# Altium schematic symbol library SYM-IC.SchLib: 136 symbols (part 1 of 7)
Pins are listed as number, name and electrical type; pins without a type are passive.

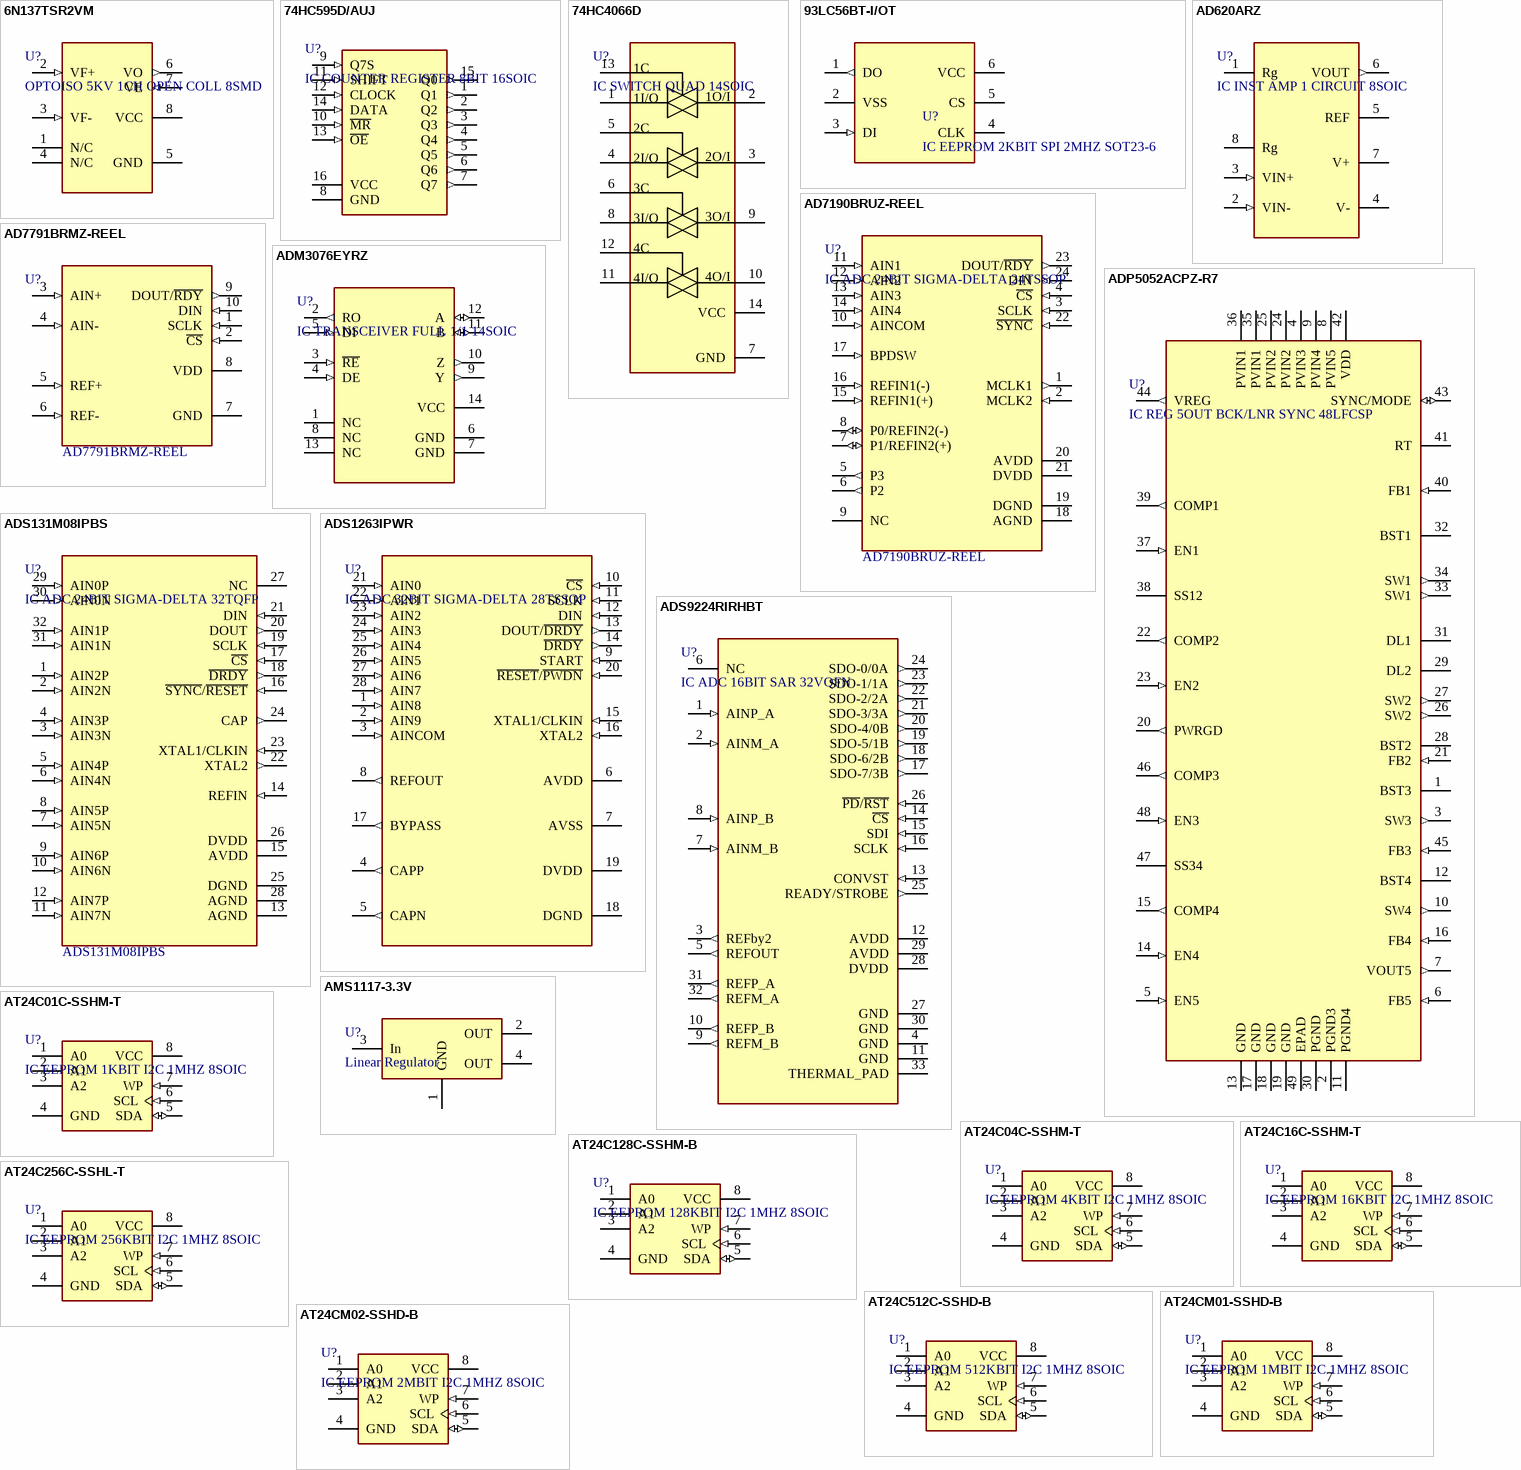
[diagram p0: symbols 6N137TSR2VM to AT24CM02-SSHD-B]

## 6N137TSR2VM
designator U?, comment OPTOISO 5KV 1CH OPEN COLL 8SMD
Optocoupler Logic-Out Open Collector DC-IN 1-CH 8-Pin MDIP SMD T/R; Manufacturer: ON Semiconductor / Fairchild; Manufacturer Part Number: 6N137TSR2VM; Number of Channels: 1; Output Current per Channel: 50mA; Data Rate: 10Mbps; Propagation Delay: 75ns; Direction: Unidirectional; Forward Voltage: 1.45V; Max Power Dissipation: 100mW; Supplier 1: Digi-Key; RoHS: Yes; Category: Optocouplers; Stock 1: 53; Pricing 1: 1=2/35000, 10=1/56600, 100=1/20550 (USD); Mount: Surface Mount; Case/Package: SMD/SMT; Number of Pins: 8; Contact Plating: Tin,Matte; Weight: 0.819g; Min Operating Temperature: -40°C; Max Operating Temperature: 100°C; Packaging: Tape and Reel; Turn-On Delay Time: 75ns; Lead Free: Lead Free; RoHS Compliant: Yes; ComponentLink1URL: http://www.mouser.com/ds/2/149/6N137M-371292.pdf?src-supplier=Mouser; ComponentLink1Description: http://www.mouser.com/ds/2/149/6N137M-371292.pdf?src-supplier=Mouser; ComponentLink2URL: https://www.fairchildsemi.com/datasheets/6N/6N137M.pdf?src-supplier=Avnet; ComponentLink2Description: https://www.fairchildsemi.com/datasheets/6N/6N137M.pdf?src-supplier=Avnet; Supplier Part Number 1: 6N137TSR2VMCT-ND
footprint SOP254P1030X508-8N (SOP, 8-Leads, Body 9/66x6/61mm, Pitch 2/54mm, IPC Medium Density)
pins: 1 N/C, 2 VF+ (in), 3 VF- (in), 4 N/C, 5 GND (power), 6 VO (out), 7 VE (in), 8 VCC (power)

## 74HC595D/AUJ
designator U?, comment IC COUNTER REGISTER 8BIT 16SOIC
IC Counter Register 8 Bit 16SOIC; Manufacturer: NXP Semiconductors; Manufacturer Part Number: 74HC595D/AUJ; Propagation Delay: 52ns; Max Supply Voltage: 6V; Min Supply Voltage: 2V; Number of Elements: 1; Number of Circuits: 8; Logic Function: Shift Register; Operating Supply Voltage: 5V; Supplier 1: Digi-Key; RoHS: Yes; Category: Shift Registers; Mount: Surface Mount; Case/Package: SO; Number of Pins: 16; Min Operating Temperature: -40°C; Max Operating Temperature: 125°C; Packaging: Tape and Reel; Package Quantity: 2500; Number of Input Lines: 1; Number of Output Lines: 8; Number of Bits per Element: 8; ComponentLink1URL: https://datasheet.ciiva.com/18575/74hc-hct595-18575039.pdf?src-supplier=Digi-Key; ComponentLink1Description: https://datasheet.ciiva.com/18575/74hc-hct595-18575039.pdf?src-supplier=Digi-Key; Supplier Part Number 1: 74HC595D/AUJ-ND
footprint SOIC127P600X175-16N (SOIC, 16-Leads, Body 9/90x3/90mm, Pitch 1/27mm, IPC Medium Density)
pins: 1 Q1 (out), 2 Q2 (out), 3 Q3 (out), 4 Q4 (out), 5 Q5 (out), 6 Q6 (out), 7 Q7 (out), 8 GND (power), 9 Q7S (in), 10 ~{MR} (in), 11 SHIFT (in), 12 CLOCK (in), 13 ~{OE} (in), 14 DATA (in), 15 Q0 (out), 16 VCC (power)

## 74HC4066D
designator U?, comment IC SWITCH QUAD 14SOIC
Analog Switch Quad SPST 14-Pin SOIC Emboss T/R; Manufacturer: Toshiba; Manufacturer Part Number: 74HC4066D; Supplier 1: Digi-Key; RoHS: Yes; Category: Interface ICs; Pricing 1: 2500=0/10494 (USD); RoHS Compliant: Yes; Supplier Part Number 1: 74HC4066DTS-ND
footprint SOIC127P600X175-14N (SOIC, 14-Leads, Body 8/65x3/90mm, Pitch 1/27mm, IPC Medium Density)
pins: 1, 2, 3, 4, 5, 6, 7 GND (power), 8, 9, 10, 11, 12, 13, 14 VCC (power)
text: 1C; 1I/O; 1O/I; 2C; 2I/O; 2O/I; 3C; 3I/O; 3O/I; 4C; 4I/O; 4O/I

## 93LC56BT-I/OT
designator U?, comment IC EEPROM 2KBIT SPI 2MHZ SOT23-6
EEPROM Memory IC 2Kb (128 x 16) SPI 2 MHz SOT-23-6; Supplier 1: Digi-Key; Supplier Part Number 1: 93LC56BT-I/OTCT-ND
footprint SOT95P270X145-6N (SOT23, 6-Leads, Body 2/90x2/70mm, Pitch 0/95mm, IPC Medium Density)
pins: 1 DO (out), 2 VSS (power), 3 DI (in), 4 CLK (power), 5 CS (power), 6 VCC (power)

## AD620ARZ
designator U?, comment IC INST AMP 1 CIRCUIT 8SOIC
Instrument Amplifier, 1, 50 V, 1.2 V/ s, 120 kHz, 2.3V to 18V, SOIC RoHS Compliant: Yes; Manufacturer: Analog Devices; Manufacturer Part Number: AD620ARZ; Bandwidth: 800kHz; Slew Rate: 1.2V/µs; Nominal Supply Current: 900uA; Common Mode Rejection Ratio: 93dB; Number of Channels: 1; Min Supply Voltage: 4.6V; -3db Bandwidth: 1MHz; Max Power Dissipation: 650mW; Input Bias Current: 500pA; Input Offset Voltage (Vos): 30mV; Operating Supply Current: 1.3mA; Output Current per Channel: 18mA; Power Supply Rejection Ratio (PSRR): 140dB; Gain Bandwidth Product: 120kHz; Settling Time: 15us; Dual Supply Voltage: 15V; Input Resistance: 10GR; Supplier 1: Digi-Key; RoHS: Yes; Category: Amplifiers - Op Amps, Buffer, Instrumentation; Pricing 1: 1=11/13000, 10=10/22900, 25=9/80480, 100=8/63900, 250=8/25000 (USD); Mount: Surface Mount; Case/Package: SOIC; Number of Pins: 8; Contact Plating: Tin,Matte; Min Operating Temperature: -55°C; Max Operating Temperature: 125°C; Operating Supply Voltage: 18V; Packaging: Rail/Tube; Package Quantity: 98; Min Dual Supply Voltage: 2.3V; Max Dual Supply Voltage: 18V; Number of Circuits: 1; Number of Amplifiers: 1; Number of Elements: 1; Power Dissipation: 650mW; Max Supply Current: 1.3mA; Series: -; Supply Current: 900uA; Length: 5mm; Width: 4mm; Height: 1.5mm; Radiation Hardening: No; REACH SVHC: No SVHC; Lead Free: Contains Lead; RoHS Compliant: Yes; ComponentLink1URL: https://datasheet.ciiva.com/15128/getdatasheetpartid-127380-15128291.pdf?src-supplier=Verical; ComponentLink1Description: https://datasheet.ciiva.com/15128/getdatasheetpartid-127380-15128291.pdf?src-supplier=Verical; ComponentLink2URL: https://datasheet.ciiva.com/1486/1789891-1486435.pdf?src-supplier=Element14; ComponentLink2Description: https://datasheet.ciiva.com/1486/1789891-1486435.pdf?src-supplier=Element14; ComponentLink3URL: https://datasheet.ciiva.com/1134/1789891-1134211.pdf?src-supplier=Element14; ComponentLink3Description: https://datasheet.ciiva.com/1134/1789891-1134211.pdf?src-supplier=Element14; ComponentLink4URL: https://datasheet.ciiva.com/2975/ad620-2975598.pdf?src-supplier=Avnet; ComponentLink4Description: https://datasheet.ciiva.com/2975/ad620-2975598.pdf?src-supplier=Avnet; ComponentLink5URL: https://datasheet.ciiva.com/1795/ad620-1795158.pdf?src-supplier=Digi-Key; ComponentLink5Description: https://datasheet.ciiva.com/1795/ad620-1795158.pdf?src-supplier=Digi-Key; ComponentLink6URL: https://datasheet.ciiva.com/48709/001248701-da-01-en-ic-amp-inst-lp-ln-18-ad620arz-soic-8-adi-48709621.pdf?src-supplier=Conrad; ComponentLink6Description: https://datasheet.ciiva.com/48709/001248701-da-01-en-ic-amp-inst-lp-ln-18-ad620arz-soic-8-adi-48709621.pdf?src-supplier=Conrad; Supplier Part Number 1: 505-AD620ARZ-ND
footprint SOIC127P600X175-8N (SOIC, 8-Leads, Body 4/89x3/90mm, Pitch 1/27mm, IPC Medium Density)
pins: 1 Rg, 2 VIN- (in), 3 VIN+ (in), 4 V- (power), 5 REF (power), 6 VOUT (out), 7 V+ (power), 8 Rg

## AD7190BRUZ-REEL
designator U?, comment IC ADC 24BIT SIGMA-DELTA 24TSSOP  Manufacturer Part Number: AD7190BRUZ-REEL
24BIT SPI/DSP; Manufacturer: Analog Devices; Operating Supply Voltage: 5V; Min Supply Voltage: 4.75V; Max Supply Voltage: 5.25V; Max Power Dissipation: 36.8mW; Number of Channels: 4; Interface: SPI; Number of Bits: 24; Sampling Rate: 4.8KS/s; Number of Converters: 1; Resolution: 24b; Polarity: Bipolar; Supply Type: Analog,Digital; Min Input Voltage: 1V; Supplier 1: Digi-Key; RoHS: Yes; Category: Analog to Digital Converters (ADCs); Stock 1: 13; Pricing 1: 1=17/96000, 10=16/51000, 25=15/82520, 100=13/94330, 250=13/25900, 500=12/40360 (USD); Case/Package: TSSOP; Number of Pins: 24; Contact Plating: Tin,Matte; Min Operating Temperature: -40°C; Max Operating Temperature: 105°C; Package Quantity: 1; Packaging: Tape and Reel; Number of A/D Converters: 1; Number of Elements: 1; Power Dissipation: 36.8mW; Max Input Voltage: 5V; Series: -; Lead Free: Contains Lead; RoHS Compliant: Yes; ComponentLink1URL: https://datasheet.ciiva.com/4031/43006881s8262506n2771-4031485.pdf?src-supplier=Arrow+Electronics; ComponentLink1Description: https://datasheet.ciiva.com/4031/43006881s8262506n2771-4031485.pdf?src-supplier=Arrow+Electronics; ComponentLink2URL: https://datasheet.ciiva.com/3039/ad7190-3039870.pdf?src-supplier=Avnet; ComponentLink2Description: https://datasheet.ciiva.com/3039/ad7190-3039870.pdf?src-supplier=Avnet; ComponentLink3URL: https://datasheet.ciiva.com/1285/ad7190-1285446.pdf?src-supplier=Digi-Key; ComponentLink3Description: https://datasheet.ciiva.com/1285/ad7190-1285446.pdf?src-supplier=Digi-Key; ComponentLink4URL: https://datasheet.ciiva.com/14919/ad7190-14919642.pdf?src-supplier=Digi-Key; ComponentLink4Description: https://datasheet.ciiva.com/14919/ad7190-14919642.pdf?src-supplier=Digi-Key; ComponentLink5URL: https://datasheet.ciiva.com/14919/ad7190-14919643.pdf?src-supplier=Digi-Key; ComponentLink5Description: https://datasheet.ciiva.com/14919/ad7190-14919643.pdf?src-supplier=Digi-Key; ComponentLink6URL: https://datasheet.ciiva.com/14919/ad7190-14919641.pdf?src-supplier=Digi-Key; ComponentLink6Description: https://datasheet.ciiva.com/14919/ad7190-14919641.pdf?src-supplier=Digi-Key; Supplier Part Number 1: 505-AD7190BRUZ-REELCT-ND
footprint TSOP65P640X120-24N (TSOP, 24-Leads, Body 7/80x4/40mm, Pitch 0/65mm, IPC Medium Density)
pins: 1 MCLK1 (out), 2 MCLK2 (in), 3 SCLK (in), 4 ~{CS} (in), 5 P3 (out), 6 P2 (out), 7 P1/REFIN2(+) (io), 8 P0/REFIN2(-) (io), 9 NC, 10 AINCOM (in), 11 AIN1 (in), 12 AIN2 (in), 13 AIN3 (in), 14 AIN4 (in), 15 REFIN1(+) (in), 16 REFIN1(-) (in), 17 BPDSW (in), 18 AGND (power), 19 DGND (power), 20 AVDD (power), 21 DVDD (power), 22 ~{SYNC} (in), 23 DOUT/~{RDY} (out), 24 DIN (in)

## AD7791BRMZ-REEL
designator U?, comment Manufacturer Part Number: AD7791BRMZ-REEL  (hidden comment: IC ADC 24BIT SIGMA-DELTA 10MSOP)
24 Bit Analog to Digital Converter 1 Input 1 Sigma-Delta 10-MSOP; Manufacturer: Analog Devices; Max Supply Voltage: 5.25V; Min Supply Voltage: 2.5V; Max Power Dissipation: 61mW; Number of Channels: 1; Interface: SPI; Number of Bits: 24; Sampling Rate: 120S/s; Resolution: 24b; Polarity: Bipolar; Power Dissipation: 225uW; Supply Type: Analog,Digital; Min Input Voltage: 100mV; Input Type: DIFFERENTIAL; Supplier 1: Digi-Key; RoHS: Yes; Category: Analog to Digital Converters (ADCs); Stock 1: 43; Pricing 1: 1=11/78000, 10=10/82200, 25=10/37360, 100=9/14010, 250=8/69148, 500=8/13072, 1000=7/93500 (USD); Case/Package: MSOP; Number of Pins: 10; Min Operating Temperature: -40°C; Max Operating Temperature: 105°C; Package Quantity: 1; Packaging: Tape and Reel; Number of Converters: 1; Number of Inputs: 1; Number of A/D Converters: 1; Number of Elements: 1; Number of Analog Inputs: 1; Max Input Voltage: 5.25V; Series: -; Lead Free: Contains Lead; RoHS Compliant: Yes; ComponentLink1URL: https://datasheet.ciiva.com/16322/ad7791-279009-16322392.pdf?src-supplier=Mouser; ComponentLink1Description: https://datasheet.ciiva.com/16322/ad7791-279009-16322392.pdf?src-supplier=Mouser; ComponentLink2URL: https://datasheet.ciiva.com/8196/ad7791-8196254.pdf?src-supplier=Avnet; ComponentLink2Description: https://datasheet.ciiva.com/8196/ad7791-8196254.pdf?src-supplier=Avnet; ComponentLink3URL: https://datasheet.ciiva.com/6659/ad7791-6659422.pdf?src-supplier=Digi-Key; ComponentLink3Description: https://datasheet.ciiva.com/6659/ad7791-6659422.pdf?src-supplier=Digi-Key; ComponentLink4URL: https://datasheet.ciiva.com/6659/ad7791-6659423.pdf?src-supplier=Digi-Key; ComponentLink4Description: https://datasheet.ciiva.com/6659/ad7791-6659423.pdf?src-supplier=Digi-Key; ComponentLink5URL: https://datasheet.ciiva.com/6659/ad7791-6659421.pdf?src-supplier=Digi-Key; ComponentLink5Description: https://datasheet.ciiva.com/6659/ad7791-6659421.pdf?src-supplier=Digi-Key; Supplier Part Number 1: 505-AD7791BRMZ-REELCT-ND
footprint TSSOP50P490X110-10N (TSSOP, 10-Leads, Body 3/00x3/00mm, Pitch 0/50mm, IPC Medium Density)
pins: 1 SCLK (in), 2 ~{CS} (in), 3 AIN+ (in), 4 AIN- (in), 5 REF+ (in), 6 REF- (in), 7 GND (power), 8 VDD (power), 9 DOUT/~{RDY} (out), 10 DIN (in)

## ADM3076EYRZ
designator U?, comment IC TRANSCEIVER FULL 1/1 14SOIC
Single Transmitter/Receiver RS-422/RS-485 14-Pin SOIC N Tube; Manufacturer: Analog Devices; Manufacturer Part Number: ADM3076EYRZ; Nominal Supply Current: 1.5mA; Data Rate: 16Mbps; Operating Supply Voltage: 3.3V; Number of Receivers: 1; Min Supply Voltage: 3V; Max Supply Voltage: 3.6V; Logic Function: Transceiver,Receiver; Interface: RS-422,RS-485; Simplex/Duplex: Full Duplex; Receiver Hysteresis: 100mV; ESD Protection: Yes; Output Type: 3-STATE; Supplier 1: Digi-Key; RoHS: Yes; Category: RS-232 / RS-422 / RS-485 Interface ICs; Stock 1: 141; Pricing 1: 1=5/87000, 10=5/27300, 25=4/98480, 100=4/32000, 250=4/09848, 500=3/67756, 1000=3/13500 (USD); Mount: Surface Mount; Case/Package: SOIC; Number of Pins: 14; Weight: 0.011923oz; Contact Plating: Tin,Matte; Min Operating Temperature: -40°C; Max Operating Temperature: 125°C; Packaging: Rail/Tube; Package Quantity: 56; Number of Transmitters: 1; Number of Drivers: 1; Operating Supply Current: 1.5mA; Number of Transceivers: 1; Max Supply Current: 1.5mA; Series: -; Supply Current: 1.5mA; Length: 8.75mm; Width: 4mm; Height: 1.5mm; REACH SVHC: No SVHC; Lead Free: Contains Lead; RoHS Compliant: Yes; ComponentLink1URL: https://datasheet.ciiva.com/15373/adm3070e-3071e-3072e-3073e-3074e-3075e-3076e-3077e-243206-15373377.pdf?src-supplier=Mouser; ComponentLink1Description: https://datasheet.ciiva.com/15373/adm3070e-3071e-3072e-3073e-3074e-3075e-3076e-3077e-243206-15373377.pdf?src-supplier=Mouser; ComponentLink2URL: https://datasheet.ciiva.com/3028/adm3070e-3071e-3072e-3073e-3074e-3075e-3076e-3077e-3078e-3028961.pdf?src-supplier=Avnet; ComponentLink2Description: https://datasheet.ciiva.com/3028/adm3070e-3071e-3072e-3073e-3074e-3075e-3076e-3077e-3078e-3028961.pdf?src-supplier=Avnet; ComponentLink3URL: https://datasheet.ciiva.com/1768/adm3070e-3071e-3072e-3073e-3074e-3075e-3076e-3077e-3078e-1768598.pdf?src-supplier=Digi-Key; ComponentLink3Description: https://datasheet.ciiva.com/1768/adm3070e-3071e-3072e-3073e-3074e-3075e-3076e-3077e-3078e-1768598.pdf?src-supplier=Digi-Key; Supplier Part Number 1: ADM3076EYRZ-ND
footprint SOIC127P600X175-14N (SOIC, 14-Leads, Body 8/65x3/90mm, Pitch 1/27mm, IPC Medium Density)
pins: 1 NC, 2 RO (out), 3 ~{RE} (in), 4 DE (in), 5 DI (in), 6 GND (power), 7 GND (power), 8 NC, 9 Y (out), 10 Z (out), 11 B (io), 12 A (io), 13 NC, 14 VCC (power)

## ADP5052ACPZ-R7
designator U?, comment IC REG 5OUT BCK/LNR SYNC 48LFCSP
Buck Regulator with LDO 4.5V to 15V 48-Pin LFCSP EP T/R; Manufacturer: Analog Devices; Manufacturer Part Number: ADP5052ACPZ-R7; Nominal Supply Current: 4.8mA; Output Voltage: 3.305V; Output Current: 200mA; Max Output Current: 4kA; Number of Outputs: 5; Max Duty Cycle: 50%; Switching Frequency: 740kHz; Voltage - Output 1: 1.6V; Voltage - Output 2: 5V; Voltage - Output 3: 1.8V; Current - Output 3: 1.2A; Max Output Voltage: 13.5V; Min Output Voltage: 800mV; Output Type: Fixed,Adjustable; Supplier 1: Digi-Key; RoHS: Yes; Category: Voltage Regulators - Switching; Pricing 1: 1=10/87000, 10=9/82200, 25=9/36560, 100=8/13210, 250=7/76664 (USD); Mount: Surface Mount; Case/Package: LFCSP EP; Number of Pins: 48; Contact Plating: Tin,Matte; Min Operating Temperature: -40°C; Max Operating Temperature: 125°C; Package Quantity: 750; Packaging: Tape and Reel; Operating Supply Voltage: 15V; Min Input Voltage: 4.5V; Max Input Voltage: 15V; Series: ADP5052; Supply Current: 4.8mA; Length: 7mm; Width: 7.1mm; Height: 0.73mm; REACH SVHC: No SVHC; Lead Free: Contains Lead; RoHS Compliant: Yes; ComponentLink1URL: https://datasheet.ciiva.com/24009/adp5052-254022-24009200.pdf?src-supplier=Mouser; ComponentLink1Description: https://datasheet.ciiva.com/24009/adp5052-254022-24009200.pdf?src-supplier=Mouser; ComponentLink2URL: https://datasheet.ciiva.com/30477/0900766b8122e86d-30477651.pdf?src-supplier=RSComponents; ComponentLink2Description: https://datasheet.ciiva.com/30477/0900766b8122e86d-30477651.pdf?src-supplier=RSComponents; ComponentLink3URL: https://datasheet.ciiva.com/18550/adp5052-18550491.pdf?src-supplier=Digi-Key; ComponentLink3Description: https://datasheet.ciiva.com/18550/adp5052-18550491.pdf?src-supplier=Digi-Key; ComponentLink4URL: https://datasheet.ciiva.com/29892/adp5052-29892875.pdf?src-supplier=Avnet; ComponentLink4Description: https://datasheet.ciiva.com/29892/adp5052-29892875.pdf?src-supplier=Avnet; ComponentLink5URL: https://datasheet.ciiva.com/18550/adp5052-18550492.pdf?src-supplier=Digi-Key; ComponentLink5Description: https://datasheet.ciiva.com/18550/adp5052-18550492.pdf?src-supplier=Digi-Key; ComponentLink6URL: https://datasheet.ciiva.com/18550/adp5052-18550493.pdf?src-supplier=Digi-Key; ComponentLink6Description: https://datasheet.ciiva.com/18550/adp5052-18550493.pdf?src-supplier=Digi-Key; ComponentLink7URL: https://datasheet.ciiva.com/48694/001251707-da-01-en-ic-reg-5out-adp5052acpz-r7-lfcsp-48-adi-48694988.pdf?src-supplier=Conrad; ComponentLink7Description: https://datasheet.ciiva.com/48694/001251707-da-01-en-ic-reg-5out-adp5052acpz-r7-lfcsp-48-adi-48694988.pdf?src-supplier=Conrad; Supplier Part Number 1: 505-ADP5052ACPZ-R7CT-ND
footprint QFN50P700X700X80_HS-49N (QFN, 48-Leads, Body 7/00x7/00mm, Pitch 0/50mm, Thermal Pad 5/60x5/60mm, IPC Medium Density)
pins: 1 BST3, 2 PGND3 (power), 3 SW3 (out), 4 PVIN3 (power), 5 EN5 (in), 6 FB5 (in), 7 VOUT5 (out), 8 PVIN5 (power), 9 PVIN4 (power), 10 SW4 (out), 11 PGND4 (power), 12 BST4, 13 GND (power), 14 EN4 (in), 15 COMP4 (out), 16 FB4 (in), 17 GND (power), 18 GND (power), 19 GND (power), 20 PWRGD (out), 21 FB2 (in), 22 COMP2 (out), 23 EN2 (in), 24 PVIN2 (power), 25 PVIN2 (power), 26 SW2 (out), 27 SW2 (out), 28 BST2, 29 DL2, 30 PGND (power), 31 DL1, 32 BST1, 33 SW1 (out), 34 SW1 (out), 35 PVIN1 (power), 36 PVIN1 (power), 37 EN1 (in), 38 SS12, 39 COMP1 (out), 40 FB1 (in), 41 RT, 42 VDD (power), 43 SYNC/MODE (io), 44 VREG (out), 45 FB3 (in), 46 COMP3 (out), 47 SS34, 48 EN3 (in), 49 EPAD

## ADS131M08IPBS
designator U?, comment IC ADC 24BIT SIGMA-DELTA 32TQFP  Manufacturer Part Number: ADS131M08IPBS
24-bit, 32-kSPS, 8-channel, simultaneous-sampling, delta-sigma ADC 32-TQFP -40 to 125; Manufacturer: Texas Instruments; Supplier 1: Digi-Key; RoHS: Yes; Category: Analog to Digital Converters (ADCs); Stock 1: 1130; Pricing 1: 1=10/61000, 10=9/58500, 25=9/13960, 80=7/93588, 250=7/57920, 500=6/91046, 1000=6/72960 (USD); Supplier Part Number 1: 296-ADS131M08IPBS-ND
footprint TSQFP50P700X700X105-32N (TSQFP, 32-Leads, Body 5/00x5/00mm, Pitch 0/50mm, IPC Medium Density)
pins: 1 AIN2P (in), 2 AIN2N (in), 3 AIN3N (in), 4 AIN3P (in), 5 AIN4P (in), 6 AIN4N (in), 7 AIN5N (in), 8 AIN5P (in), 9 AIN6P (in), 10 AIN6N (in), 11 AIN7N (in), 12 AIN7P (in), 13 AGND (power), 14 REFIN (in), 15 AVDD (power), 16 ~{SYNC}/~{RESET} (in), 17 ~{CS} (in), 18 ~{DRDY} (out), 19 SCLK (in), 20 DOUT (out), 21 DIN (in), 22 XTAL2 (out), 23 XTAL1/CLKIN (in), 24 CAP (out), 25 DGND (power), 26 DVDD (power), 27 NC, 28 AGND (power), 29 AIN0P (in), 30 AIN0N (in), 31 AIN1N (in), 32 AIN1P (in)

## ADS1263IPWR
designator U?, comment IC ADC 32BIT SIGMA-DELTA 28TSSOP
10-Channel Single ADC Delta-Sigma 38ksps 32-bit Serial 28-Pin TSSOP T/R; Manufacturer: Texas Instruments; Manufacturer Part Number: ADS1263IPWR; Number of Bits: 32; Sampling Rate: 38000S/s; Interface: SPI; Number of A/D Converters: 1; Power Consumption: 27mW; Polarity: Bipolar,Unipolar; Max Dual Supply Voltage: 2.5V; Number of Analog Inputs: 10; Max Supply Voltage: 5.25V; Power Dissipation: 25mW; Operating Supply Voltage: 5V; Max Power Dissipation: 37mW; Supplier 1: Digi-Key; RoHS: Yes; Category: Analog to Digital Converters (ADCs); Mount: Surface Mount; Case/Package: TSSOP; Number of Pins: 28; Contact Plating: Gold; Min Operating Temperature: -40°C; Max Operating Temperature: 125°C; Packaging: Tape and Reel; Supply Type: Single; Number of Inputs: 10; Lead Free: Lead Free; RoHS Compliant: Yes; ComponentLink1URL: http://www.ti.com/lit/ds/symlink/ads1263.pdf?src-supplier=Digi-Key; ComponentLink1Description: http://www.ti.com/lit/ds/symlink/ads1263.pdf?src-supplier=Digi-Key; ComponentLink2URL: http://www.ti.com/lit/gpn/ads1263?src-supplier=Mouser; ComponentLink2Description: http://www.ti.com/lit/gpn/ads1263?src-supplier=Mouser; ComponentLink3URL: http://www.ti.com/general/docs/lit/getliterature.tsp?genericPartNumber=ADS1263&&fileType=pdf&src-supplier=Avnet; ComponentLink3Description: http://www.ti.com/general/docs/lit/getliterature.tsp?genericPartNumber=ADS1263&&fileType=pdf&src-supplier=Avnet; Supplier Part Number 1: 296-42485-1-ND
footprint TSOP65P640X120-28N (TSOP, 28-Leads, Body 9/70x4/40mm, Pitch 0/65mm, IPC Medium Density)
pins: 1 AIN8 (in), 2 AIN9 (in), 3 AINCOM (in), 4 CAPP (out), 5 CAPN (out), 6 AVDD (power), 7 AVSS (power), 8 REFOUT (out), 9 START (in), 10 ~{CS} (in), 11 SCLK (in), 12 DIN (in), 13 DOUT/~{DRDY} (out), 14 ~{DRDY} (out), 15 XTAL1/CLKIN (in), 16 XTAL2 (in), 17 BYPASS (out), 18 DGND (power), 19 DVDD (power), 20 ~{RESET}/~{PWDN} (in), 21 AIN0 (in), 22 AIN1 (in), 23 AIN2 (in), 24 AIN3 (in), 25 AIN4 (in), 26 AIN5 (in), 27 AIN6 (in), 28 AIN7 (in)

## ADS9224RIRHBT
designator U?, comment IC ADC 16BIT SAR 32VQFN
2-Channel Dual ADC SAR 3Msps 16-bit Serial 32-Pin VQFN EP T/R; Manufacturer: Texas Instruments; Manufacturer Part Number: ADS9224RIRHBT; Supplier 1: Digi-Key; RoHS: Yes; Category: Analog to Digital Converters (ADCs); Stock 1: 119; Pricing 1: 1=26/60000, 10=24/52800, 25=23/42600, 100=22/75000 (USD); Supplier Part Number 1: 296-ADS9224RIRHBTCT-ND
footprint QFN50P500X500X100_HS-33N (QFN, 32-Leads, Body 5/00x5/00mm, Pitch 0/50mm, Thermal Pad 3/45x3/45mm, IPC Medium Density)
pins: 1 AINP_A (in), 2 AINM_A (in), 3 REFby2 (out), 4 GND (power), 5 REFOUT (out), 6 NC, 7 AINM_B (in), 8 AINP_B (in), 9 REFM_B (out), 10 REFP_B (out), 11 GND (power), 12 AVDD (power), 13 CONVST (in), 14 ~{CS} (in), 15 SDI (in), 16 SCLK (in), 17 SDO-7/3B (out), 18 SDO-6/2B (out), 19 SDO-5/1B (out), 20 SDO-4/0B (out), 21 SDO-3/3A (out), 22 SDO-2/2A (out), 23 SDO-1/1A (out), 24 SDO-0/0A (out), 25 READY/STROBE (out), 26 ~{PD}/~{RST} (in), 27 GND (power), 28 DVDD (power), 29 AVDD (power), 30 GND (power), 31 REFP_A (out), 32 REFM_A (out), 33 THERMAL_PAD (power)

## AMS1117-3.3V
designator U?, comment Linear Regulator
footprint SOT230P700X180-4N (SOT223, 4-Leads, Body 6/50x7/00mm (avg), Pitch 2/30mm, IPC Medium Density)
pins: 1 GND, 2 OUT, 3 In, 4 OUT

## AT24C01C-SSHM-T
designator U?, comment IC EEPROM 1KBIT I2C 1MHZ 8SOIC
Serial EEPROM, 1K (128 X 8), 2-WIRE - 8 SOIC, Pb/halo Free, Nipdau, 1.7V; Manufacturer: Microchip; Manufacturer Part Number: AT24C01C-SSHM-T; Supplier 1: Digi-Key; RoHS: Yes; Category: EEPROM; Pricing 1: 1=0/22000, 100=0/21200 (USD); Supplier Part Number 1: AT24C01C-SSHM-TCT-ND
footprint SOIC127P600X175-8N (SOIC, 8-Leads, Body 4/89x3/90mm, Pitch 1/27mm, IPC Medium Density)
pins: 1 A0, 2 A1, 3 A2, 4 GND (power), 5 SDA (io), 6 SCL (in), 7 WP (in), 8 VCC (power)

## AT24C04C-SSHM-T
designator U?, comment IC EEPROM 4KBIT I2C 1MHZ 8SOIC
EEPROM Serial-2Wire 4K-bit 512 x 8 1.8V/2.5V/3.3V/5V Automotive 8-Pin SOIC N T/R; Manufacturer: Microchip; Manufacturer Part Number: AT24C04C-SSHM-T; Memory Type: Non-Volatile,EEPROM; Memory Size: 4Kb; Access Time: 550ns; Supplier 1: Digi-Key; RoHS: Yes; Category: EEPROM; Pricing 1: 1=0/28000 (USD); Mount: Surface Mount; Case/Package: SOIC; Number of Pins: 8; Min Operating Temperature: -40°C; Max Operating Temperature: 85°C; Packaging: Tape and Reel; Frequency: 1MHz; RoHS Compliant: Yes; ComponentLink1URL: http://www.farnell.com/datasheets/1726557.pdf?src-supplier=Farnell; ComponentLink1Description: http://www.farnell.com/datasheets/1726557.pdf?src-supplier=Farnell; ComponentLink2URL: http://www.farnell.com/datasheets/1726557.pdf?src-supplier=Newark; ComponentLink2Description: http://www.farnell.com/datasheets/1726557.pdf?src-supplier=Newark; ComponentLink3URL: http://www.farnell.com/datasheets/1726557.pdf?src-supplier=Element14; ComponentLink3Description: http://www.farnell.com/datasheets/1726557.pdf?src-supplier=Element14; ComponentLink4URL: http://www.microchip.com/mymicrochip/filehandler.aspx?ddocname=en590583&src-supplier=Digi-Key; ComponentLink4Description: http://www.microchip.com/mymicrochip/filehandler.aspx?ddocname=en590583&src-supplier=Digi-Key; Supplier Part Number 1: AT24C04C-SSHM-TCT-ND
footprint SOIC127P600X175-8N (SOIC, 8-Leads, Body 4/89x3/90mm, Pitch 1/27mm, IPC Medium Density)
pins: 1 A0, 2 A1, 3 A2, 4 GND (power), 5 SDA (io), 6 SCL (in), 7 WP (in), 8 VCC (power)

## AT24C16C-SSHM-T
designator U?, comment IC EEPROM 16KBIT I2C 1MHZ 8SOIC
IC EEPROM 16KBIT 1MHZ 8SOIC; Manufacturer: Microchip; Manufacturer Part Number: AT24C16C-SSHM-T; Memory Type: Non-Volatile,EEPROM; Memory Size: 16Kb; Access Time: 550ns; Supplier 1: Digi-Key; RoHS: Yes; Category: EEPROM; Pricing 1: 1=0/33000 (USD); Mount: Surface Mount; Case/Package: SOIC; Number of Pins: 8; Min Operating Temperature: -40°C; Max Operating Temperature: 85°C; Packaging: Tape and Reel; Frequency: 1MHz; RoHS Compliant: Yes; ComponentLink1URL: http://www.microchip.com/mymicrochip/filehandler.aspx?ddocname=en590089&src-supplier=Digi-Key; ComponentLink1Description: http://www.microchip.com/mymicrochip/filehandler.aspx?ddocname=en590089&src-supplier=Digi-Key; Supplier Part Number 1: AT24C16C-SSHM-TCT-ND
footprint SOIC127P600X175-8N (SOIC, 8-Leads, Body 4/89x3/90mm, Pitch 1/27mm, IPC Medium Density)
pins: 1 A0, 2 A1, 3 A2, 4 GND (power), 5 SDA (io), 6 SCL (in), 7 WP (in), 8 VCC (power)

## AT24C128C-SSHM-B
designator U?, comment IC EEPROM 128KBIT I2C 1MHZ 8SOIC
EEPROM Serial-2Wire 128K-bit 16K x 8 1.8V/2.5V/3.3V/5V Automotive 8-Pin SOIC N Tube; Manufacturer: Microchip; Manufacturer Part Number: AT24C128C-SSHM-B; Supplier 1: Digi-Key; RoHS: Yes; Category: EEPROM; Stock 1: 2737; Pricing 1: 1=0/54000, 25=0/53000, 100=0/52500 (USD); Supplier Part Number 1: AT24C128C-SSHM-B-ND
footprint SOIC127P600X175-8N (SOIC, 8-Leads, Body 4/89x3/90mm, Pitch 1/27mm, IPC Medium Density)
pins: 1 A0, 2 A1, 3 A2, 4 GND (power), 5 SDA (io), 6 SCL (in), 7 WP (in), 8 VCC (power)

## AT24C256C-SSHL-T
designator U?, comment IC EEPROM 256KBIT I2C 1MHZ 8SOIC
EEPROM Serial-2Wire 256K-bit 32K x 8 1.8V/2.5V/3.3V/5V Automotive 8-Pin SOIC N T/R; Manufacturer: Microchip / Atmel; Manufacturer Part Number: AT24C256C-SSHL-T; Access Time: 550ns; Memory Size: 256Kb; Min Supply Voltage: 1.7V; Max Supply Voltage: 5.5V; Interface: I2C,Serial,2-Wire; Nominal Supply Current: 3mA; Organization: 32KX8; Write Cycle Time-Max (tWC): 5ms; Write Protection: YES; Voltage: 5V; Supplier 1: Digi-Key; RoHS: Yes; Category: EEPROM; Mount: Surface Mount; Case/Package: SOIC; Number of Pins: 8; Contact Plating: Tin,Matte; Min Operating Temperature: -40°C; Max Operating Temperature: 85°C; Packaging: Tape and Reel; Frequency: 1MHz; Memory Type: EEPROM; Package Quantity: 1; Density: 256Kb; Max Frequency: 1MHz; Series: -; Access Time-Max: 550ns; Supply Voltage-Nom: 5.5V; Supply Current: 3mA; Radiation Hardening: No; RoHS Compliant: Yes; REACH SVHC: No SVHC; Lead Free: Lead Free; ComponentLink1URL: https://datasheet.ciiva.com/18618/doc8568-18618016.pdf?src-supplier=Digi-Key; ComponentLink1Description: https://datasheet.ciiva.com/18618/doc8568-18618016.pdf?src-supplier=Digi-Key; ComponentLink2URL: https://datasheet.ciiva.com/15123/getdatasheetpartid-329973-15123399.pdf?src-supplier=Verical; ComponentLink2Description: https://datasheet.ciiva.com/15123/getdatasheetpartid-329973-15123399.pdf?src-supplier=Verical; ComponentLink3URL: https://datasheet.ciiva.com/22729/1726561-22729497.pdf?src-supplier=Element14; ComponentLink3Description: https://datasheet.ciiva.com/22729/1726561-22729497.pdf?src-supplier=Element14; Supplier Part Number 1: AT24C256C-SSHL-TCT-ND
footprint SOIC127P600X175-8N (SOIC, 8-Leads, Body 4/89x3/90mm, Pitch 1/27mm, IPC Medium Density)
pins: 1 A0, 2 A1, 3 A2, 4 GND (power), 5 SDA (io), 6 SCL (in), 7 WP (in), 8 VCC (power)

## AT24C512C-SSHD-B
designator U?, comment IC EEPROM 512KBIT I2C 1MHZ 8SOIC
AT24C512C Series 512 Kb (64 K x 8) 2.5 V I2C-Compatible Serial EEPROM - SOIC-8; Manufacturer: Microchip / Atmel; Manufacturer Part Number: AT24C512C-SSHD-B; Access Time: 550ns; Memory Size: 512Kb; Min Supply Voltage: 2.5V; Max Supply Voltage: 5.5V; Number of Words: 65536; Nominal Supply Current: 3mA; Interface: I2C,Serial,2-Wire; Organization: 64KX8; Write Cycle Time-Max (tWC): 5ms; Write Protection: YES; Supplier 1: Digi-Key; RoHS: Yes; Category: EEPROM; Mount: Surface Mount; Case/Package: SOIC; Number of Pins: 8; Contact Plating: Gold; Min Operating Temperature: -40°C; Max Operating Temperature: 85°C; Packaging: Bulk; Frequency: 1MHz; Memory Type: EEPROM; Density: 512Kb; Package Quantity: 100; Max Frequency: 1MHz; Series: -; Access Time-Max: 550ns; Supply Voltage-Nom: 5.5V; Supply Current: 3mA; Length: 5.05mm; Width: 3.99mm; Height: 1.5mm; Radiation Hardening: No; RoHS Compliant: Yes; REACH SVHC: No SVHC; Lead Free: Lead Free; ComponentLink1URL: https://datasheet.ciiva.com/15123/getdatasheetpartid-320463-15123382.pdf?src-supplier=Verical; ComponentLink1Description: https://datasheet.ciiva.com/15123/getdatasheetpartid-320463-15123382.pdf?src-supplier=Verical; ComponentLink2URL: https://datasheet.ciiva.com/1910/at24c512c-1910446.pdf?src-supplier=Digi-Key; ComponentLink2Description: https://datasheet.ciiva.com/1910/at24c512c-1910446.pdf?src-supplier=Digi-Key; ComponentLink3URL: https://datasheet.ciiva.com/1509/1701693-1509890.pdf?src-supplier=Element14; ComponentLink3Description: https://datasheet.ciiva.com/1509/1701693-1509890.pdf?src-supplier=Element14; Supplier Part Number 1: AT24C512C-SSHD-B-ND
footprint SOIC127P600X175-8N (SOIC, 8-Leads, Body 4/89x3/90mm, Pitch 1/27mm, IPC Medium Density)
pins: 1 A0, 2 A1, 3 A2, 4 GND (power), 5 SDA (io), 6 SCL (in), 7 WP (in), 8 VCC (power)

## AT24CM01-SSHD-B
designator U?, comment IC EEPROM 1MBIT I2C 1MHZ 8SOIC
AT24CM01 Series 1M (128K x 8) 5.5 V Surface Mount SPI Serial EEPROM - SOIC-8; Manufacturer: Microchip; Manufacturer Part Number: AT24CM01-SSHD-B; Memory Type: Non-Volatile,EEPROM; Memory Size: 1Mb; Access Time: 550ns; Supplier 1: Digi-Key; RoHS: Yes; Category: EEPROM; Pricing 1: 1=1/78000, 25=1/77000 (USD); Mount: Surface Mount; Case/Package: SOIC; Min Operating Temperature: -40°C; Max Operating Temperature: 85°C; Packaging: Rail/Tube; Frequency: 1MHz; RoHS Compliant: Yes; ComponentLink1URL: http://www.farnell.com/datasheets/2720105.pdf?src-supplier=Farnell; ComponentLink1Description: http://www.farnell.com/datasheets/2720105.pdf?src-supplier=Farnell; ComponentLink2URL: http://www.farnell.com/datasheets/2720105.pdf?src-supplier=Element14; ComponentLink2Description: http://www.farnell.com/datasheets/2720105.pdf?src-supplier=Element14; ComponentLink3URL: http://www.farnell.com/datasheets/2720105.pdf?src-supplier=Newark; ComponentLink3Description: http://www.farnell.com/datasheets/2720105.pdf?src-supplier=Newark; ComponentLink4URL: http://www.microchip.com/mymicrochip/filehandler.aspx?ddocname=en589803&src-supplier=Digi-Key; ComponentLink4Description: http://www.microchip.com/mymicrochip/filehandler.aspx?ddocname=en589803&src-supplier=Digi-Key; Supplier Part Number 1: AT24CM01-SSHD-B-ND
footprint SOIC127P600X175-8N (SOIC, 8-Leads, Body 4/89x3/90mm, Pitch 1/27mm, IPC Medium Density)
pins: 1 A0, 2 A1, 3 A2, 4 GND (power), 5 SDA (io), 6 SCL (in), 7 WP (in), 8 VCC (power)

## AT24CM02-SSHD-B
designator U?, comment IC EEPROM 2MBIT I2C 1MHZ 8SOIC
AT24CM02: 2 Mb (256K x 8) 5.5 V I2C-Compatible (2-wire) Serial EEPROM-SOIC-8; Manufacturer: Microchip; Manufacturer Part Number: AT24CM02-SSHD-B; Memory Type: Non-Volatile,EEPROM; Access Time: 450ns; Memory Size: 2Mb; Supplier 1: Digi-Key; RoHS: Yes; Category: EEPROM; Pricing 1: 1=3/29000, 25=3/27000 (USD); Mount: Surface Mount; Case/Package: SOIC; Min Operating Temperature: -40°C; Max Operating Temperature: 85°C; Packaging: Rail/Tube; Frequency: 1MHz; RoHS Compliant: Yes; ComponentLink1URL: http://www.microchip.com/mymicrochip/filehandler.aspx?ddocname=en589710&src-supplier=Digi-Key; ComponentLink1Description: http://www.microchip.com/mymicrochip/filehandler.aspx?ddocname=en589710&src-supplier=Digi-Key; Supplier Part Number 1: AT24CM02-SSHD-B-ND
footprint SOIC127P600X175-8N (SOIC, 8-Leads, Body 4/89x3/90mm, Pitch 1/27mm, IPC Medium Density)
pins: 1 A0, 2 A1, 3 A2, 4 GND (power), 5 SDA (io), 6 SCL (in), 7 WP (in), 8 VCC (power)

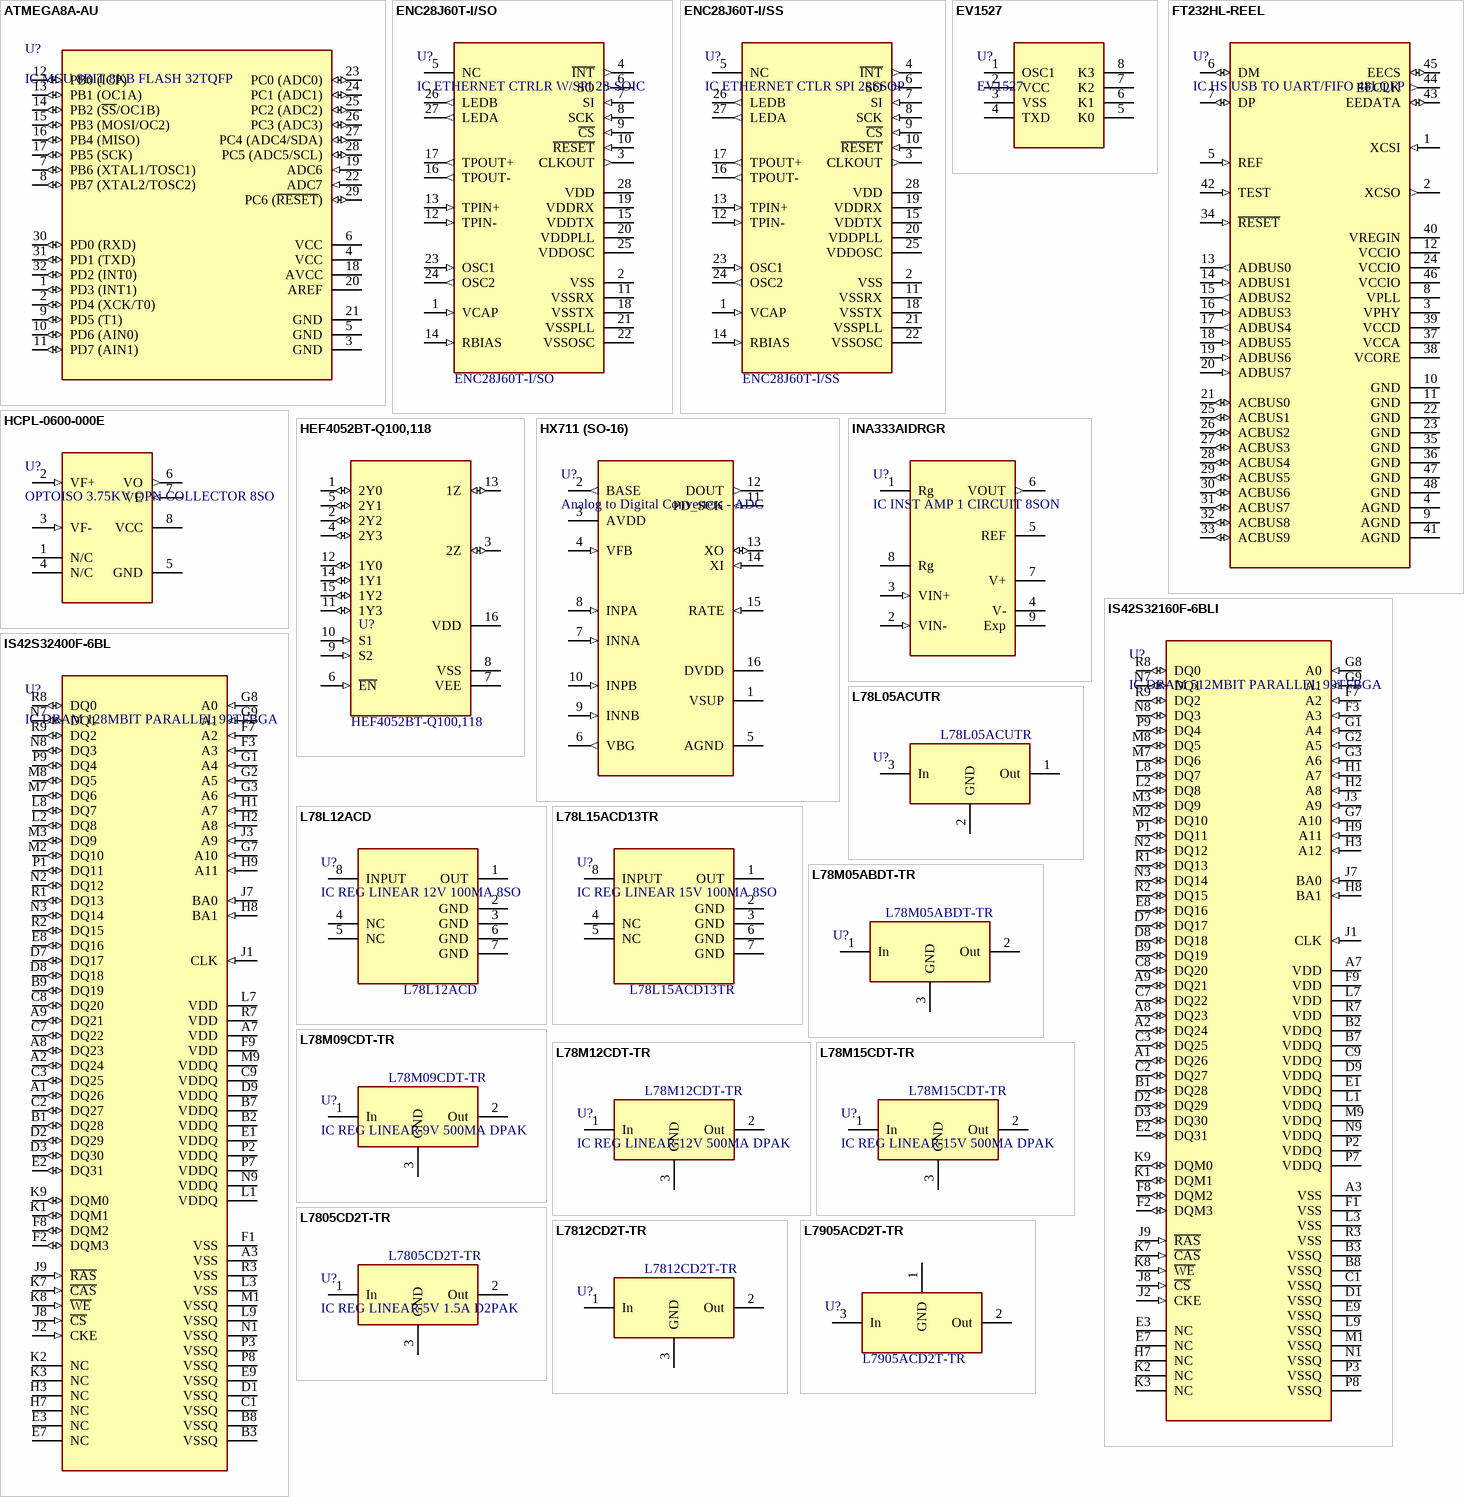
[diagram p1: symbols ATMEGA8A-AU to L7905ACD2T-TR]

## ATMEGA8A-AU
designator U?, comment IC MCU 8BIT 8KB FLASH 32TQFP
ATmega Series 8 KB Flash 1 KB SRAM 16 MHz 8-Bit Microcontroller - TQFP-32; Manufacturer: Microchip; Manufacturer Part Number: ATMEGA8A-AU; Peripherals: Brown-out Detect/Reset,POR,PWM,WDT; Interface: I2C,SPI,UART,USART; Frequency: 16MHz; Oscillator Type: Internal; Max Supply Voltage: 5.5V; Min Supply Voltage: 2.7V; Supplier 1: Digi-Key; RoHS: Yes; Category: Microcontrollers; Pricing 1: 1=2/47000, 25=2/26560, 100=2/05850 (USD); Case/Package: TQFP; Min Operating Temperature: -40°C; Max Operating Temperature: 85°C; Memory Type: FLASH; Memory Size: 8KB; ComponentLink1URL: http://www.farnell.com/datasheets/2048764.pdf?src-supplier=Farnell; ComponentLink1Description: http://www.farnell.com/datasheets/2048764.pdf?src-supplier=Farnell; ComponentLink2URL: http://www.microchip.com/mymicrochip/filehandler.aspx?ddocname=en590320&src-supplier=Digi-Key; ComponentLink2Description: http://www.microchip.com/mymicrochip/filehandler.aspx?ddocname=en590320&src-supplier=Digi-Key; Supplier Part Number 1: ATMEGA8A-AU-ND
footprint TQFP80P900X900X120-32N (TQFP, 32-Leads, Body 7/00x7/00mm, Pitch 0/80mm, IPC Medium Density)
pins: 1 PD3 (INT1) (io), 2 PD4 (XCK/T0) (io), 3 GND (power), 4 VCC (power), 5 GND (power), 6 VCC (power), 7 PB6 (XTAL1/TOSC1) (io), 8 PB7 (XTAL2/TOSC2) (io), 9 PD5 (T1) (io), 10 PD6 (AIN0) (io), 11 PD7 (AIN1) (io), 12 PB0 (ICP) (io), 13 PB1 (OC1A) (io), 14 PB2 (~{SS}/OC1B) (io), 15 PB3 (MOSI/OC2) (io), 16 PB4 (MISO) (io), 17 PB5 (SCK) (io), 18 AVCC (power), 19 ADC6 (in), 20 AREF, 21 GND (power), 22 ADC7 (in), 23 PC0 (ADC0) (io), 24 PC1 (ADC1) (io), 25 PC2 (ADC2) (io), 26 PC3 (ADC3) (io), 27 PC4 (ADC4/SDA) (io), 28 PC5 (ADC5/SCL) (io), 29 PC6 (~{RESET}) (io), 30 PD0 (RXD) (io), 31 PD1 (TXD) (io), 32 PD2 (INT0) (io)

## ENC28J60T-I/SO
designator U?, comment IC ETHERNET CTRLR W/SPI 28-SOIC  Manufacturer Part Number: ENC28J60T-I/SO
ENC28J60 Series 3.3 V Stand-Alone Ethernet Controller with SPI Interface-SOIC-28; Manufacturer: Microchip; Operating Supply Voltage: 3.3V; Min Supply Voltage: 3.1V; Max Supply Voltage: 3.6V; Data Rate: 10Mbps; Max Supply Current: 180mA; Supplier 1: Digi-Key; RoHS: Yes; Category: Ethernet Interface ICs; Mount: Surface Mount; Case/Package: SOIC W; Number of Pins: 28; Min Operating Temperature: -40°C; Max Operating Temperature: 85°C; Packaging: Tape and Reel; Package Quantity: 1600; Interface: SPI; Supply Voltage-Nom: 3.6V; Radiation Hardening: No; Lead Free: Lead Free; RoHS Compliant: Yes; ComponentLink1URL: https://datasheet.ciiva.com/1695/39662e-1695447.pdf?src-supplier=Digi-Key; ComponentLink1Description: https://datasheet.ciiva.com/1695/39662e-1695447.pdf?src-supplier=Digi-Key; Supplier Part Number 1: ENC28J60T-I/SOCT-ND
footprint SOIC127P1030X265-28N (SOIC, 28-Leads, Body 17/90x7/50mm, Pitch 1/27mm, IPC Medium Density)
pins: 1 VCAP (in), 2 VSS (power), 3 CLKOUT (out), 4 ~{INT} (out), 5 NC, 6 SO (out), 7 SI (in), 8 SCK (in), 9 ~{CS} (in), 10 ~{RESET} (in), 11 VSSRX (power), 12 TPIN- (in), 13 TPIN+ (in), 14 RBIAS (in), 15 VDDTX (power), 16 TPOUT- (out), 17 TPOUT+ (out), 18 VSSTX (power), 19 VDDRX (power), 20 VDDPLL (power), 21 VSSPLL (power), 22 VSSOSC (power), 23 OSC1 (in), 24 OSC2 (out), 25 VDDOSC (power), 26 LEDB (out), 27 LEDA (out), 28 VDD (power)

## ENC28J60T-I/SS
designator U?, comment IC ETHERNET CTLR SPI 28SSOP  Manufacturer Part Number: ENC28J60T-I/SS
ENC28J60 Series 3.3 V Stand-Alone Ethernet Controller with SPI Interface-SSOP-28; Manufacturer: Microchip; Data Rate: 10Mbps; Max Supply Voltage: 3.6V; Min Supply Voltage: 3.1V; Operating Supply Voltage: 3.3V; Number of Transceivers: 1; Max Supply Current: 12mA; Supplier 1: Digi-Key; RoHS: Yes; Category: Ethernet Interface ICs; Mount: Surface Mount; Case/Package: SSOP; Number of Pins: 28; Weight: 0.080001oz; Min Operating Temperature: -40°C; Max Operating Temperature: 85°C; Packaging: Tape and Reel; Interface: SPI; Length: 0.413inch; Width: 0.22inch; Height: 0.073inch; Radiation Hardening: No; Lead Free: Lead Free; RoHS Compliant: Yes; ComponentLink1URL: https://datasheet.ciiva.com/18411/70047673-18411493.pdf?src-supplier=Allied+Electronics; ComponentLink1Description: https://datasheet.ciiva.com/18411/70047673-18411493.pdf?src-supplier=Allied+Electronics; ComponentLink2URL: https://datasheet.ciiva.com/16437/filehandler-aspxddocname-en023091-16437717.pdf?src-supplier=Future+Electronics; ComponentLink2Description: https://datasheet.ciiva.com/16437/filehandler-aspxddocname-en023091-16437717.pdf?src-supplier=Future+Electronics; ComponentLink3URL: https://datasheet.ciiva.com/1695/39662e-1695445.pdf?src-supplier=Digi-Key; ComponentLink3Description: https://datasheet.ciiva.com/1695/39662e-1695445.pdf?src-supplier=Digi-Key; ComponentLink4URL: https://datasheet.ciiva.com/1695/39662e-1695446.pdf?src-supplier=Digi-Key; ComponentLink4Description: https://datasheet.ciiva.com/1695/39662e-1695446.pdf?src-supplier=Digi-Key; ComponentLink5URL: https://datasheet.ciiva.com/1695/39662e-1695444.pdf?src-supplier=Digi-Key; ComponentLink5Description: https://datasheet.ciiva.com/1695/39662e-1695444.pdf?src-supplier=Digi-Key; Supplier Part Number 1: ENC28J60T-I/SSCT-ND
footprint SOP65P780X200-28N (SOP, 28-Leads, Body 10/20x5/30mm, Pitch 0/65mm, IPC Medium Density)
pins: 1 VCAP (in), 2 VSS (power), 3 CLKOUT (out), 4 ~{INT} (out), 5 NC, 6 SO (out), 7 SI (in), 8 SCK (in), 9 ~{CS} (in), 10 ~{RESET} (in), 11 VSSRX (power), 12 TPIN- (in), 13 TPIN+ (in), 14 RBIAS (in), 15 VDDTX (power), 16 TPOUT- (out), 17 TPOUT+ (out), 18 VSSTX (power), 19 VDDRX (power), 20 VDDPLL (power), 21 VSSPLL (power), 22 VSSOSC (power), 23 OSC1 (in), 24 OSC2 (out), 25 VDDOSC (power), 26 LEDB (out), 27 LEDA (out), 28 VDD (power)

## EV1527
designator U?
OTP Encoder,20-Bit Providing/1 Milion Code OTP Encoder Utilizing Cmos Technology Procoss . 20 Bit Providing Up To 1 Milion Codes, Vcc:3.0V - 12V
footprint SOIC127P600X175-8N (SOIC, 8-Leads, Body 4/89x3/90mm, Pitch 1/27mm, IPC Medium Density)
pins: 1 OSC1, 2 VCC, 3 VSS, 4 TXD, 5 K0, 6 K1, 7 K2, 8 K3

## FT232HL-REEL
designator U?, comment IC HS USB TO UART/FIFO 48LQFP
Full Speed/High Speed USB Interface Device USB 1.1/USB 2.0 3.3V T/R 48-Pin LQFP; Manufacturer: FTDI; Manufacturer Part Number: FT232HL-REEL; Number of Channels: 1; Max Supply Voltage: 3.63V; Min Supply Voltage: 2.97V; Nominal Supply Current: 60mA; Data Rate: 12Mbps; Interface: UART,RS-232,RS-422,RS-485; Operating Supply Current: 24mA; Supplier 1: Digi-Key; RoHS: Yes; Category: Interface ICs; Pricing 1: 1=3/89000, 10=3/73000, 50=3/36000, 100=3/26000, 250=3/10000, 500=3/06250 (USD); Mount: Surface Mount; Case/Package: LQFP; Number of Pins: 48; Weight: 0.006409oz; Min Operating Temperature: -40°C; Max Operating Temperature: 85°C; Packaging: Tape and Reel; Operating Supply Voltage: 3.3V; Package Quantity: 1; Series: -; Supply Current: 60mA; Length: 7mm; Width: 7mm; Height: 1.4mm; REACH SVHC: No SVHC; Lead Free: Lead Free; RoHS Compliant: Yes; ComponentLink1URL: https://datasheet.ciiva.com/1787/ds-ft232h-1787050.pdf?src-supplier=Digi-Key; ComponentLink1Description: https://datasheet.ciiva.com/1787/ds-ft232h-1787050.pdf?src-supplier=Digi-Key; ComponentLink2URL: https://datasheet.ciiva.com/1787/ds-ft232h-1787051.pdf?src-supplier=Digi-Key; ComponentLink2Description: https://datasheet.ciiva.com/1787/ds-ft232h-1787051.pdf?src-supplier=Digi-Key; ComponentLink3URL: https://datasheet.ciiva.com/1787/ds-ft232h-1787052.pdf?src-supplier=Digi-Key; ComponentLink3Description: https://datasheet.ciiva.com/1787/ds-ft232h-1787052.pdf?src-supplier=Digi-Key; ComponentLink4URL: https://datasheet.ciiva.com/4787/ds-ft232h-11324-4787564.pdf?src-supplier=Mouser; ComponentLink4Description: https://datasheet.ciiva.com/4787/ds-ft232h-11324-4787564.pdf?src-supplier=Mouser; ComponentLink5URL: https://datasheet.ciiva.com/7661/ds-ft232h-7661546.pdf?src-supplier=Element14; ComponentLink5Description: https://datasheet.ciiva.com/7661/ds-ft232h-7661546.pdf?src-supplier=Element14; Supplier Part Number 1: 768-1101-1-ND
footprint CQFP50P900X900X160-48N (CQFP, 48-Leads, Body 9/00x9/00mm, Pitch 0/50mm, IPC Medium Density)
pins: 1 XCSI (in), 2 XCSO (out), 3 VPHY (power), 4 AGND (power), 5 REF (in), 6 DM (io), 7 DP (io), 8 VPLL (power), 9 AGND (power), 10 GND (power), 11 GND (power), 12 VCCIO (power), 13 ADBUS0 (out), 14 ADBUS1 (in), 15 ADBUS2 (out), 16 ADBUS3 (in), 17 ADBUS4 (out), 18 ADBUS5 (in), 19 ADBUS6 (in), 20 ADBUS7 (in), 21 ACBUS0 (io), 22 GND (power), 23 GND (power), 24 VCCIO (power), 25 ACBUS1 (io), 26 ACBUS2 (io), 27 ACBUS3 (io), 28 ACBUS4 (io), 29 ACBUS5 (io), 30 ACBUS6 (io), 31 ACBUS7 (io), 32 ACBUS8 (io), 33 ACBUS9 (io), 34 ~{RESET} (in), 35 GND (power), 36 GND (power), 37 VCCA (power), 38 VCORE (power), 39 VCCD (power), 40 VREGIN (power), 41 AGND (power), 42 TEST (in), 43 EEDATA (io), 44 EECLK (out), 45 EECS (io), 46 VCCIO (power), 47 GND (power), 48 GND (power)

## HCPL-0600-000E
designator U?, comment OPTOISO 3.75KV OPN COLLECTOR 8SO
Optocoupler Logic-Out Open Collector DC-IN 1-CH 8-Pin SOIC Tube; Manufacturer: Broadcom Avago; Manufacturer Part Number: HCPL-0600-000E; Output Current: 50mA; Rise Time: 24ns; Forward Current: 20mA; Forward Voltage: 1.75V; Propagation Delay: 75ns; Reverse Breakdown Voltage: 5V; Direction: Unidirectional; Max Power Dissipation: 85mW; Number of Channels: 1; Fall Time: 10ns; Min Supply Voltage: 4.5V; Max Supply Voltage: 5.5V; Max Output Voltage: 7V; Input Type: DC; Approvals: UL,CSA; Supplier 1: Digi-Key; RoHS: Yes; Category: Optocouplers; Stock 1: 8582; Pricing 1: 1=2/57000, 10=1/71100, 100=1/31710, 500=1/19060, 1000=1/05300 (USD); Mount: Surface Mount,Through Hole; Case/Package: SOIC; Number of Pins: 8; Min Operating Temperature: -40°C; Max Operating Temperature: 85°C; Package Quantity: 100; Packaging: Rail/Tube; Max Output Current: 50mA; Output Current per Channel: 50mA; Isolation Voltage: 3.75kV; Number of Elements: 1; Power Dissipation: 85mW; Turn-On Delay Time: 75ns; Max Input Current: 20mA; Series: -; Collector Emitter Breakdown Voltage: 7V; Radiation Hardening: No; REACH SVHC: No SVHC; RoHS Compliant: Yes; ComponentLink1URL: https://datasheet.ciiva.com/11771/0900766b8077970f-11771848.pdf?src-supplier=RSComponents; ComponentLink1Description: https://datasheet.ciiva.com/11771/0900766b8077970f-11771848.pdf?src-supplier=RSComponents; ComponentLink2URL: https://datasheet.ciiva.com/15119/getdatasheetpartid-112693-15119664.pdf?src-supplier=Verical; ComponentLink2Description: https://datasheet.ciiva.com/15119/getdatasheetpartid-112693-15119664.pdf?src-supplier=Verical; ComponentLink3URL: https://datasheet.ciiva.com/26331/140053-da-01-en-optokoppler-hcpl-0600-000e-26331121.pdf?src-supplier=Conrad; ComponentLink3Description: https://datasheet.ciiva.com/26331/140053-da-01-en-optokoppler-hcpl-0600-000e-26331121.pdf?src-supplier=Conrad; Supplier Part Number 1: 516-1734-5-ND
footprint SOIC127P600X330-8N (SOIC, 8-Leads, Body 5/14x3/94mm, Pitch 1/27mm, IPC Medium Density)
pins: 1 N/C, 2 VF+ (in), 3 VF- (in), 4 N/C, 5 GND (power), 6 VO (out), 7 VE (in), 8 VCC (power)

## HEF4052BT-Q100,118
designator U?, comment Manufacturer Part Number: HEF4052BT-Q100,118  (hidden comment: IC MUX/DEMUX DUAL 4CH 16SOIC)
HEF4052B-Q100 Series 15 V 2.5 kOhm 8 Channel (2 x 1: 4) SMT Mux/Demux - SOIC-16; Manufacturer: Nexperia; Supplier 1: Digi-Key; Category: Logic Gates; Stock 1: 17136; Pricing 1: 1=0/67000, 10=0/58800, 25=0/55240, 100=0/45080, 250=0/41872, 500=0/35638, 1000=0/28510 (USD); RoHS Compliant: Yes; ComponentLink1URL: https://datasheet.octopart.com/HEF4052BT-Q100%2C118-Nexperia-datasheet-87843296.pdf?src-supplier=SHENGYU+ELECTRONICS; ComponentLink1Description: https://datasheet.octopart.com/HEF4052BT-Q100%2C118-Nexperia-datasheet-87843296.pdf?src-supplier=SHENGYU+ELECTRONICS; ComponentLink2URL: https://datasheet.octopart.com/HEF4052BT-Q100%2C118-Nexperia-datasheet-33006647.pdf?src-supplier=Element14; ComponentLink2Description: https://datasheet.octopart.com/HEF4052BT-Q100%2C118-Nexperia-datasheet-33006647.pdf?src-supplier=Element14; ComponentLink3URL: https://datasheet.octopart.com/HEF4052BT-Q100%2C118-Philips-datasheet-14043992.pdf?src-supplier=Element14; ComponentLink3Description: https://datasheet.octopart.com/HEF4052BT-Q100%2C118-Philips-datasheet-14043992.pdf?src-supplier=Element14; Supplier Part Number 1: 1727-1041-1-ND
footprint SOIC127P600X175-16N (SOIC, 16-Leads, Body 9/90x3/90mm, Pitch 1/27mm, IPC Medium Density)
pins: 1 2Y0 (io), 2 2Y2 (io), 3 2Z (io), 4 2Y3 (io), 5 2Y1 (io), 6 ~{EN} (in), 7 VEE (power), 8 VSS (power), 9 S2 (in), 10 S1 (in), 11 1Y3 (io), 12 1Y0 (io), 13 1Z (io), 14 1Y1 (io), 15 1Y2 (io), 16 VDD (power)

## HX711 (SO-16)
designator U?, comment Analog to Digital Converters - ADC
Manufacturer: Avia Semiconductor; Number of Channels: 2 Channel; Analog Supply Voltage (Min): 2.6 V; Analog Supply Voltage (Max): 5.5 V; Sampling Rate: 80 S/s; Resolution: 24 bit; Interface Type: Serial; Digital Supply Voltage (Min): 2.6 V; Digital Supply Voltage (Max): 5.5 V; Mounting Style: SMD/SMT; Minimum Operating Temperature: -40 C°; Maximum Operating Temperature: 2.6 C°; Category: Analog to Digital Converters (ADCs); Case/Package: SOIC-16
footprint SOIC127P600X175-16N (SOIC, 16-Leads, Body 9/90x3/90mm, Pitch 1/27mm, IPC Medium Density)
pins: 1 VSUP (power) "Regulator supply: 2.7 ~ 5.5V", 2 BASE (out), 3 AVDD (power) "Analog supply: 2.6 ~ 5.5V", 4 VFB (in), 5 AGND (power) "Analog Ground", 6 VBG (out), 7 INNA (in), 8 INPA (in), 9 INNB (in), 10 INPB (in), 11 PD_SCK (in), 12 DOUT (out), 13 XO (io), 14 XI (in), 15 RATE (in), 16 DVDD (power) "Digital supply: 2.6 ~ 5.5V"

## INA333AIDRGR
designator U?, comment IC INST AMP 1 CIRCUIT 8SON
Low-Power, Zero-Drift, Precision Instrumentation Amplifier 8-SON -40 to 125; Manufacturer: Texas Instruments; Manufacturer Part Number: INA333AIDRGR; -3db Bandwidth: 150kHz; Min Dual Supply Voltage: 900mV; Max Dual Supply Voltage: 2.75V; Operating Supply Voltage: 5V; Slew Rate: 0.16V/µs; Common Mode Rejection Ratio: 100dB; Number of Channels: 1; Max Supply Voltage: 5.5V; Min Supply Voltage: 1.8V; Input Bias Current: 200pA; Input Offset Voltage (Vos): 25uV; Operating Supply Current: 50uA; Output Current per Channel: 40mA; Number of Elements: 3; Input Resistance: 100GR; Supplier 1: Digi-Key; RoHS: Yes; Category: Amplifiers - Op Amps, Buffer, Instrumentation; Pricing 1: 1=5/50000, 10=4/94200, 25=4/67240, 100=4/04930, 250=3/84160, 500=3/44706, 1000=3/42825 (USD); Case/Package: SON; Number of Pins: 8; Min Operating Temperature: -40°C; Max Operating Temperature: 125°C; Packaging: Tape and Reel; Package Quantity: 3000; Number of Circuits: 1; Quiescent Current: 50uA; Series: -; Radiation Hardening: No; Lead Free: Lead Free; RoHS Compliant: Yes; ComponentLink1URL: https://datasheet.ciiva.com/15129/getdatasheetpartid-472507-15129017.pdf?src-supplier=Verical; ComponentLink1Description: https://datasheet.ciiva.com/15129/getdatasheetpartid-472507-15129017.pdf?src-supplier=Verical; ComponentLink2URL: https://datasheet.ciiva.com/1815/ina333-1815973.pdf?src-supplier=Digi-Key; ComponentLink2Description: https://datasheet.ciiva.com/1815/ina333-1815973.pdf?src-supplier=Digi-Key; ComponentLink3URL: https://datasheet.ciiva.com/26189/sbos445b-26189413.pdf?src-supplier=Avnet+Europe; ComponentLink3Description: https://datasheet.ciiva.com/26189/sbos445b-26189413.pdf?src-supplier=Avnet+Europe; ComponentLink4URL: https://datasheet.ciiva.com/2975/ina333-2975830.pdf?src-supplier=Avnet; ComponentLink4Description: https://datasheet.ciiva.com/2975/ina333-2975830.pdf?src-supplier=Avnet; Supplier Part Number 1: 296-41266-1-ND
footprint SON50P300X80_HS-9N (SON, 8-Leads, Body 3/00x3/00mm, Pitch 0/50mm, Thermal Pad 2/06x2/06mm, IPC Medium Density)
pins: 1 Rg, 2 VIN- (in), 3 VIN+ (in), 4 V- (power), 5 REF (power), 6 VOUT (out), 7 V+ (power), 8 Rg, 9 Exp (power)

## IS42S32160F-6BLI
designator U?, comment IC DRAM 512MBIT PARALLEL 90TFBGA
SDRAM Memory IC 512Mb (16M x 32) Parallel 167 MHz 5.4 ns 90-TFBGA (8x13); Supplier 1: Digi-Key; Supplier Part Number 1: 706-1364-ND
footprint BGA90C80P9X15_800X1300X120 (BGA, 90-Leads, Body 8/00x13/00mmx1/20mm, Pitch 0/80mm)
pins: A1 DQ26 (io), A2 DQ24 (io), A3 VSS (power), A7 VDD (power), A8 DQ23 (io), A9 DQ21 (io), B1 DQ28 (io), B2 VDDQ (power), B3 VSSQ (power), B7 VDDQ (power), B8 VSSQ (power), B9 DQ19 (io), C1 VSSQ (power), C2 DQ27 (io), C3 DQ25 (io), C7 DQ22 (io), C8 DQ20 (io), C9 VDDQ (power), D1 VSSQ (power), D2 DQ29 (io), D3 DQ30 (io), D7 DQ17 (io), D8 DQ18 (io), D9 VDDQ (power), E1 VDDQ (power), E2 DQ31 (io), E3 NC (power), E7 NC (power), E8 DQ16 (io), E9 VSSQ (power), F1 VSS (power), F2 DQM3 (io), F3 A3 (in), F7 A2 (in), F8 DQM2 (io), F9 VDD (power), G1 A4 (in), G2 A5 (in), G3 A6 (in), G7 A10 (in), G8 A0 (in), G9 A1 (in), H1 A7 (in), H2 A8 (in), H3 A12 (in), H7 NC (power), H8 BA1 (in), H9 A11 (in), J1 CLK (in), J2 CKE (in), J3 A9 (in), J7 BA0 (in), J8 ~{CS} (in), J9 ~{RAS} (in), K1 DQM1 (io), K2 NC (power), K3 NC (power), K7 ~{CAS} (in), K8 ~{WE} (in), K9 DQM0 (io), L1 VDDQ (power), L2 DQ8 (io), L3 VSS (power), L7 VDD (power), L8 DQ7 (io), L9 VSSQ (power), M1 VSSQ (power), M2 DQ10 (io), M3 DQ9 (io), M7 DQ6 (io), M8 DQ5 (io), M9 VDDQ (power), N1 VSSQ (power), N2 DQ12 (io), N3 DQ14 (io), N7 DQ1 (io), N8 DQ3 (io), N9 VDDQ (power), P1 DQ11 (io), P2 VDDQ (power), P3 VSSQ (power), P7 VDDQ (power), P8 VSSQ (power), P9 DQ4 (io), R1 DQ13 (io), R2 DQ15 (io), R3 VSS (power), R7 VDD (power), R8 DQ0 (io), R9 DQ2 (io)